# Altium footprint library Capacitor - Electrolytic.PcbLib: 177 footprints (part 7 of 12)
Each footprint in its own frame and in the unit in brackets; x right, y up, seen from the top. Pads: shape width x height; smd on the part's side, far side on the other; paste and mask are expansions set on the pad; w line width, h text height; cw(c..) or ccw(c..) is an arc to the next point about the centre after c.
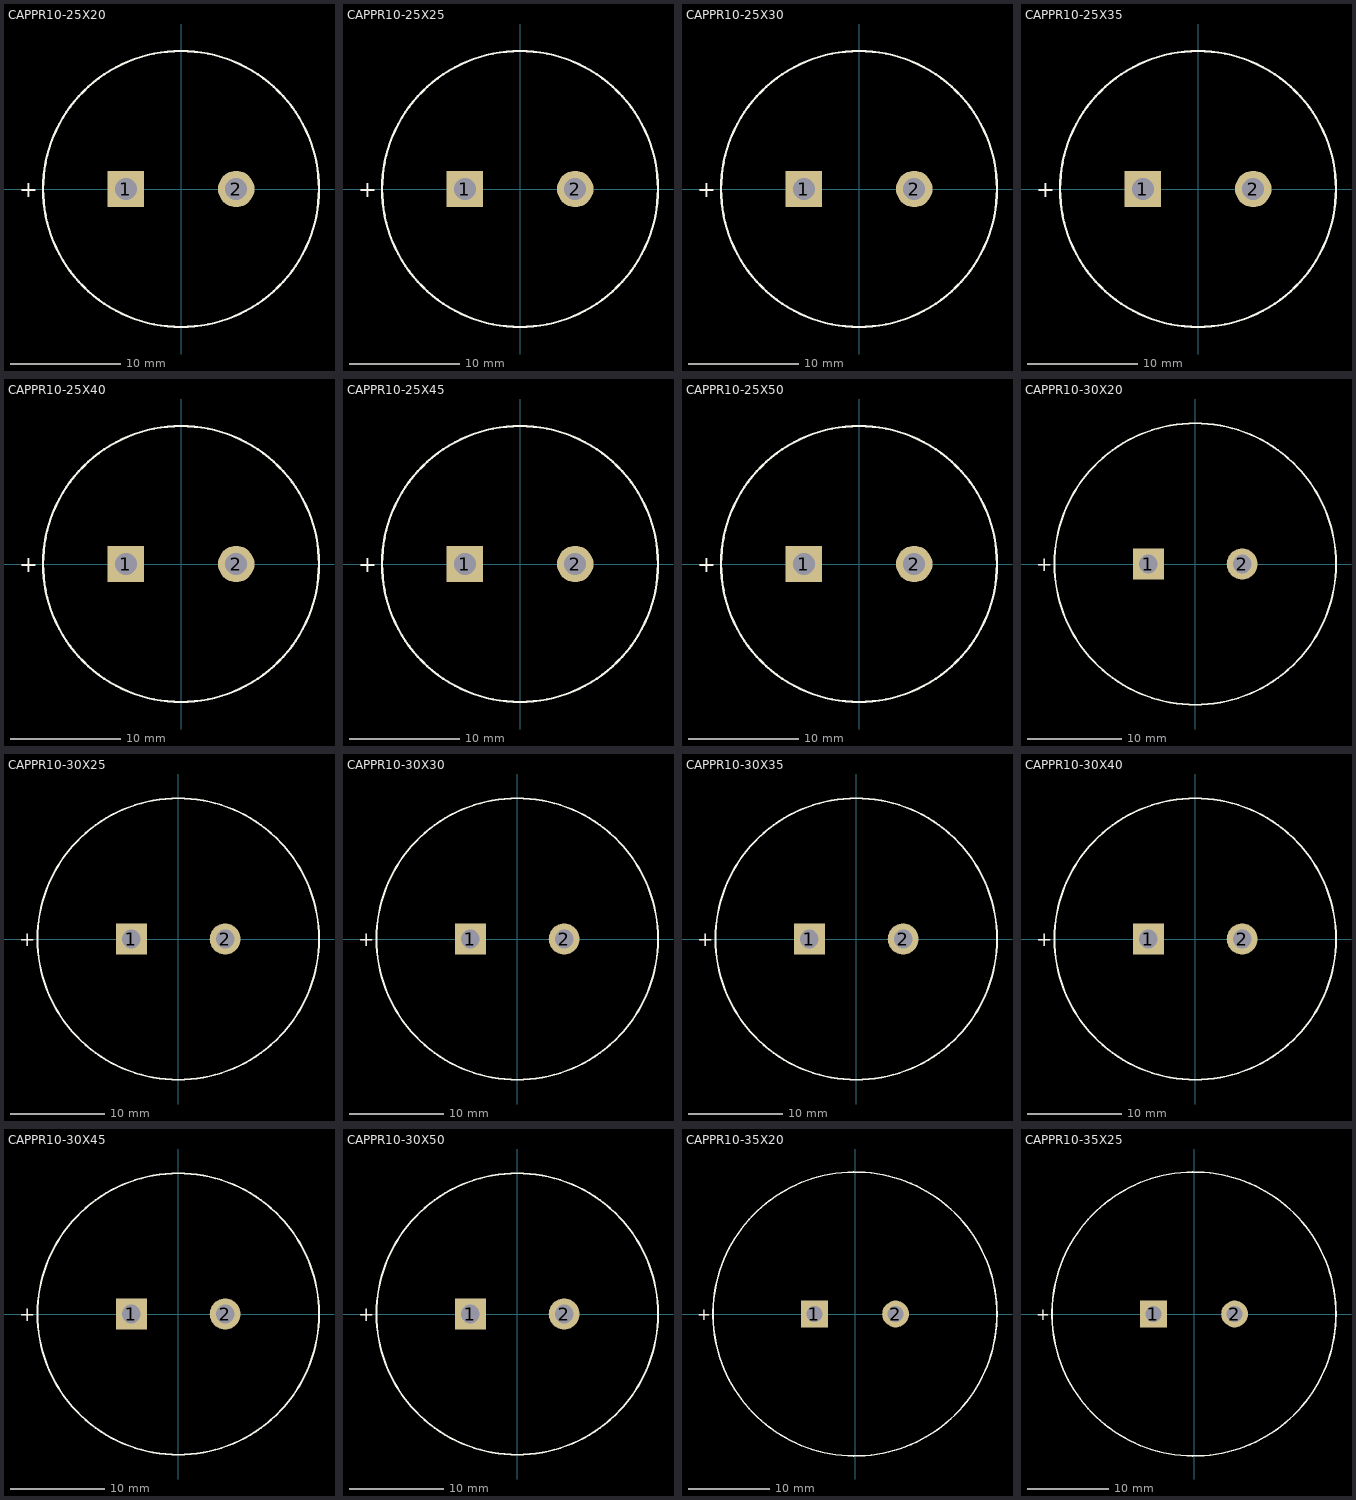
[diagram p6: the footprints below, top view; thin cyan lines are the x and y axes]

## CAPPR10-25X20 [mm]
pads (2):
  rect 3.3x3.3 hole 2: 1(-5,0)
  round 3.3 hole 2: 2(5,0)
Top Overlay:
  circle w0.2: c0,0 r12.5
  text "+" at -14.675,-0.75 h1.5
3D body: height 20, standoff 0.5, extent -12.511,-12.511 12.511,12.511

## CAPPR10-25X25 [mm]
pads (2):
  rect 3.3x3.3 hole 2: 1(-5,0)
  round 3.3 hole 2: 2(5,0)
Top Overlay:
  circle w0.2: c0,0 r12.5
  text "+" at -14.675,-0.75 h1.5
3D body: height 25, standoff 0.5, extent -12.511,-12.511 12.511,12.511

## CAPPR10-25X30 [mm]
pads (2):
  rect 3.3x3.3 hole 2: 1(-5,0)
  round 3.3 hole 2: 2(5,0)
Top Overlay:
  circle w0.2: c0,0 r12.5
  text "+" at -14.675,-0.75 h1.5
3D body: height 30, standoff 0.5, extent -12.511,-12.511 12.511,12.511

## CAPPR10-25X35 [mm]
pads (2):
  rect 3.3x3.3 hole 2: 1(-5,0)
  round 3.3 hole 2: 2(5,0)
Top Overlay:
  circle w0.2: c0,0 r12.5
  text "+" at -14.675,-0.75 h1.5
3D body: height 35, standoff 0.5, extent -12.511,-12.511 12.511,12.511

## CAPPR10-25X40 [mm]
pads (2):
  rect 3.3x3.3 hole 2: 1(-5,0)
  round 3.3 hole 2: 2(5,0)
Top Overlay:
  circle w0.2: c0,0 r12.5
  text "+" at -14.675,-0.75 h1.5
3D body: height 40, standoff 0.5, extent -12.511,-12.511 12.511,12.511

## CAPPR10-25X45 [mm]
pads (2):
  rect 3.3x3.3 hole 2: 1(-5,0)
  round 3.3 hole 2: 2(5,0)
Top Overlay:
  circle w0.2: c0,0 r12.5
  text "+" at -14.675,-0.75 h1.5
3D body: height 45, standoff 0.5, extent -12.511,-12.511 12.511,12.511

## CAPPR10-25X50 [mm]
pads (2):
  rect 3.3x3.3 hole 2: 1(-5,0)
  round 3.3 hole 2: 2(5,0)
Top Overlay:
  circle w0.2: c0,0 r12.5
  text "+" at -14.675,-0.75 h1.5
3D body: height 50, standoff 0.5, extent -12.511,-12.511 12.511,12.511

## CAPPR10-30X20 [mm]
pads (2):
  rect 3.3x3.3 hole 2: 1(-5,0)
  round 3.3 hole 2: 2(5,0)
Top Overlay:
  circle w0.2: c0,0 r15
  text "+" at -16.975,-0.75 h1.5
3D body: height 20, standoff 0.5, extent -15.011,-15.011 15.011,15.011

## CAPPR10-30X25 [mm]
pads (2):
  rect 3.3x3.3 hole 2: 1(-5,0)
  round 3.3 hole 2: 2(5,0)
Top Overlay:
  circle w0.2: c0,0 r15
  text "+" at -16.975,-0.75 h1.5
3D body: height 25, standoff 0.5, extent -15.011,-15.011 15.011,15.011

## CAPPR10-30X30 [mm]
pads (2):
  rect 3.3x3.3 hole 2: 1(-5,0)
  round 3.3 hole 2: 2(5,0)
Top Overlay:
  circle w0.2: c0,0 r15
  text "+" at -16.975,-0.75 h1.5
3D body: height 30, standoff 0.5, extent -15.011,-15.011 15.011,15.011

## CAPPR10-30X35 [mm]
pads (2):
  rect 3.3x3.3 hole 2: 1(-5,0)
  round 3.3 hole 2: 2(5,0)
Top Overlay:
  circle w0.2: c0,0 r15
  text "+" at -16.975,-0.75 h1.5
3D body: height 35, standoff 0.5, extent -15.011,-15.011 15.011,15.011

## CAPPR10-30X40 [mm]
pads (2):
  rect 3.3x3.3 hole 2: 1(-5,0)
  round 3.3 hole 2: 2(5,0)
Top Overlay:
  circle w0.2: c0,0 r15
  text "+" at -16.975,-0.75 h1.5
3D body: height 40, standoff 0.5, extent -15.011,-15.011 15.011,15.011

## CAPPR10-30X45 [mm]
pads (2):
  rect 3.3x3.3 hole 2: 1(-5,0)
  round 3.3 hole 2: 2(5,0)
Top Overlay:
  circle w0.2: c0,0 r15
  text "+" at -16.975,-0.75 h1.5
3D body: height 45, standoff 0.5, extent -15.011,-15.011 15.011,15.011

## CAPPR10-30X50 [mm]
pads (2):
  rect 3.3x3.3 hole 2: 1(-5,0)
  round 3.3 hole 2: 2(5,0)
Top Overlay:
  circle w0.2: c0,0 r15
  text "+" at -16.975,-0.75 h1.5
3D body: height 50, standoff 0.5, extent -15.011,-15.011 15.011,15.011

## CAPPR10-35X20 [mm]
pads (2):
  rect 3.3x3.3 hole 2: 1(-5,0)
  round 3.3 hole 2: 2(5,0)
Top Overlay:
  circle w0.2: c0,0 r17.5
  text "+" at -19.475,-0.75 h1.5
3D body: height 20, standoff 0.5, extent -17.511,-17.511 17.511,17.511

## CAPPR10-35X25 [mm]
pads (2):
  rect 3.3x3.3 hole 2: 1(-5,0)
  round 3.3 hole 2: 2(5,0)
Top Overlay:
  circle w0.2: c0,0 r17.5
  text "+" at -19.475,-0.75 h1.5
3D body: height 25, standoff 0.5, extent -17.511,-17.511 17.511,17.511